# EAGLE library part PH-OEM (library pH-OEM)
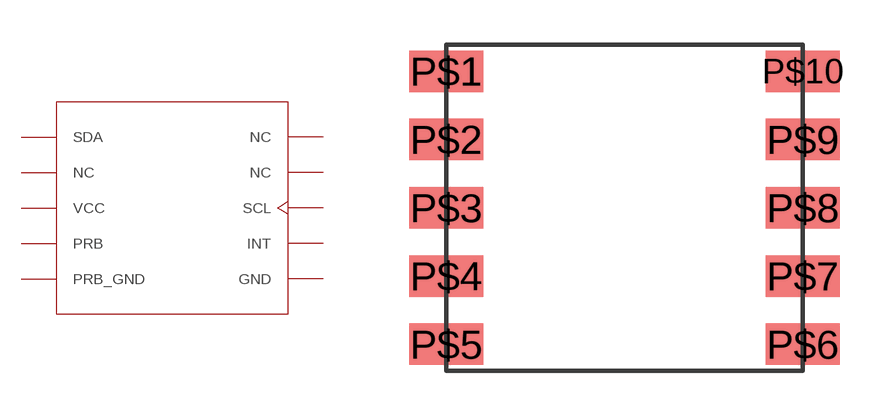
[diagram p0: symbol with the pads of PH_SENSOR; footprint PH_SENSOR]

Designator prefix -

## PH-OEM  [PH_SENSOR]
P$1  SDA
P$2  NC  nc
P$3  VCC  pwr
P$4  PRB
P$5  PRB_GND
P$6  GND  pwr
P$7  INT
P$8  SCL
P$9  NC  nc
P$10  NC  nc

## Footprint PH_SENSOR (pad centres in mm)
smd 2.5 x 1.4: P$1 -6,4.6; P$2 -6,2.3; P$3 -6,0; P$4 -6,-2.3; P$5 -6,-4.6; P$6 6,-4.6; P$7 6,-2.3; P$8 6,0; P$9 6,2.3; P$10 6,4.6